# EAGLE library part BAS40XY (library SparkFun-DiscreteSemi)
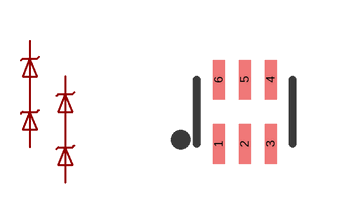
[diagram p12: symbol with the pads of SOT363; footprint SOT363]

Designator prefix -; gates G$1=BAS40XY G$2=BAS40XY

## BAS40XY  [SOT363]
1  G$1:3
2  G$1:1
3  G$2:2
4  G$2:3
5  G$2:1
6  G$1:2

## Footprint SOT363 (pad centres in mm)
smd 0.3 x 0.99: 1 -0.65,-0.8; 2 0,-0.8; 3 0.65,-0.8; 4 0.65,0.81; 5 0,0.81; 6 -0.65,0.81